# Altium footprint library Speaker Library.PcbLib: 46 footprints (part 1 of 3)
Each footprint in its own frame and in the unit in brackets; x right, y up, seen from the top. Pads: shape width x height; smd on the part's side, far side on the other; paste and mask are expansions set on the pad; w line width, h text height; cw(c..) or ccw(c..) is an arc to the next point about the centre after c.
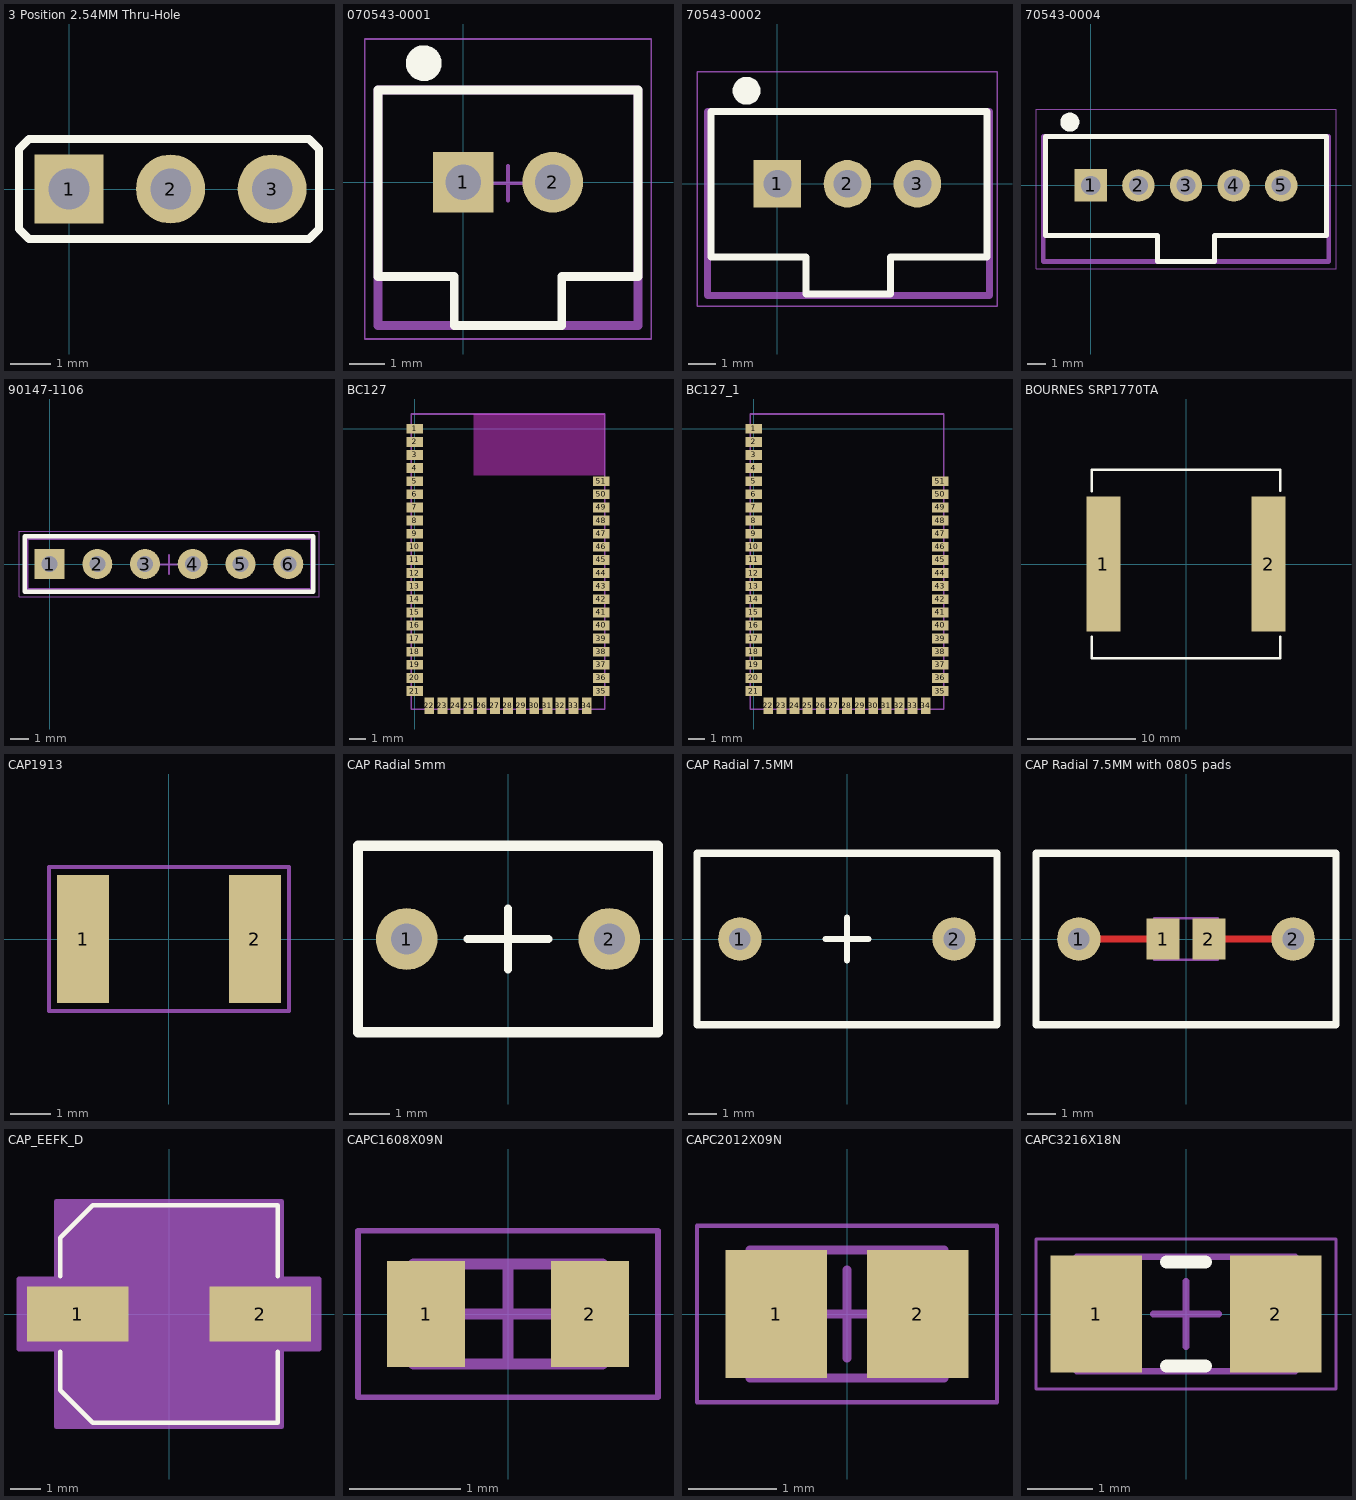
[diagram p0: the footprints below, top view; thin cyan lines are the x and y axes]

## 3 Position 2.54MM Thru-Hole [mil] "Jumper, Through-hole, 2.54mm Pitch"
height 452.76
pads (3):
  rect 67.99x67.99 hole 40: 1(0,0)
  round 67.99 hole 40: 2(100,0) 3(200,0)
Top Overlay:
  lines w7.87: -49.21,-39.37 -49.21,39.37 -39.37,49.21 236.22,49.21 246.06,39.37 246.06,-39.37 236.22,-49.21 -39.37,-49.21 -49.21,-39.37
Mechanical 15:
  lines w3.94: 179.31,0 218.69,0 ; 199,-19.69 199,19.68
3D body "901200763.stp": height 364.17, standoff -112.87, extent -51.57,-49.21 248.43,49.22

## 070543-0001 [mil] "Connector, Through-hole, 2.54mm Pitch"
height 452.76
pads (2):
  rect 67.99x67.99 hole 40: 1(0,0)
  round 67.99 hole 40: 2(100,0)
Top Overlay:
  circle w20: c-44,133 r10
  lines w10: -95,-105 -10,-105 -10,-160 110,-160 110,-105 195,-105 195,103 -95,103 -95,-105
Mechanical 13:
  lines w10: -94.99,-160 -94.99,103 195,103 195,-160 -94.99,-160
Mechanical 15:
  lines w1.97: -110,-175 210,-175 210,160 -110,160 -110,-175
  lines w3.94: 30.32,-1 69.69,-1 ; 50,-20.69 50,18.68
3D body "705430001.stp": height 465, standoff -130, extent -95,-160 195,100

## 70543-0002 [mil] "Connector, Through-hole, 2.54mm Pitch"
height 452.76
pads (3):
  rect 67.99x67.99 hole 40: 1(0,0)
  round 67.99 hole 40: 2(100,0) 3(200,0)
Top Overlay:
  circle w20: c-44,133 r10
  lines w10: 40,-105 -95,-105 -95,103 300,103 300,-105 162,-105 162,-158 ; 41,-105 41,-158 162,-158 ; 42,-158 162,-158
Mechanical 13:
  lines w10: -100,-160 303,-160 303,103 -100,103 -100,-160
Mechanical 15:
  lines w1.97: -115,-175 -115,160 314,160 314,-175 -115,-175
  lines w3.94: 179.31,0 218.69,0 ; 199,-19.69 199,19.68
3D body "705430002.stp": height 465, standoff -130, extent -98,-159 302,101

## 70543-0004 [mil] "Connector, Through-hole, 2.54mm Pitch"
height 452.76
pads (5):
  rect 67.99x67.99 hole 40: 1(0,0)
  round 67.99 hole 40: 2(100,0) 3(200,0) 4(300,0) 5(400,0)
Top Overlay:
  circle w20: c-44,133 r10
  lines w10: 140,-160 260,-160 ; 140,-160 140,-105 -95,-105 -95,103 495,103 495,-105 260,-105 260,-160 ; 140,-160 260,-160
Mechanical 13:
  lines w10: -100,-160 -100,103 500,103 500,-160 -100,-160
Mechanical 15:
  lines w1.97: -115,-175 515,-175 515,160 -115,160 -115,-175
  lines w3.94: 179.31,0 218.69,0 ; 199,-19.69 199,19.68
3D body "705430004.stp": height 465, standoff -130, extent -100,-160 500,100

## 90147-1106 [mil] "Receptacle, 6POS, Through-hole, 2.54mm Pitch"
height 452.76
pads (6):
  rect 63x63 hole 33.46: 1(0,0)
  round 63 hole 33.46: 2(100,0) 3(200,0) 4(300,0) 5(400,0) 6(500,0)
Top Overlay:
  lines w10: 552.17,-58.07 -52.17,-58.07 -52.17,58.07 552.17,58.07 ; 552.56,-58.07 552.56,58.07
Mechanical 13:
  lines w10: -49.21,-55.12 548.23,-55.12 550.59,-52.76 550.59,54.72 550.2,55.12 -49.21,55.12 -49.21,-55.12
Mechanical 15:
  lines w1.97: -63.98,-68.9 564.37,-68.9 564.37,68.9 -63.98,68.9 -63.98,-68.9
  lines w3.94: 230.31,-1 269.69,-1 ; 250,-20.69 250,18.68
3D body "901471106.stp": height 334.65, standoff -114.17, extent -49.99,-49.99 550.01,50.01

## BC127 [mm]
pads (51):
  rect 1x0.6 smd mask+0: 1(0,0) 2(0,-0.8) 3(0,-1.6) 4(0,-2.4) 5(0,-3.2) 6(0,-4) 7(0,-4.8) 8(0,-5.6) 9(0,-6.4) 10(0,-7.2) 11(0,-8) 12(0,-8.8) 13(0,-9.6) 14(0,-10.4) 15(0,-11.2) 16(0,-12) 17(0,-12.8) 18(0,-13.6) 19(0,-14.4) 20(0,-15.2) 21(0,-16) 35(11.4,-16) 36(11.4,-15.2) 37(11.4,-14.4) 38(11.4,-13.6) 39(11.4,-12.8) 40(11.4,-12) 41(11.4,-11.2) 42(11.4,-10.4) 43(11.4,-9.6) 44(11.4,-8.8) 45(11.4,-8) 46(11.4,-7.2) 47(11.4,-6.4) 48(11.4,-5.6) 49(11.4,-4.8) 50(11.4,-4) 51(11.4,-3.2)
  rect 0.6x1 smd mask+0: 22(0.9,-16.9) 23(1.7,-16.9) 24(2.5,-16.9) 25(3.3,-16.9) 26(4.1,-16.9) 27(4.9,-16.9) 28(5.7,-16.9) 29(6.5,-16.9) 30(7.3,-16.9) 31(8.1,-16.9) 32(8.9,-16.9) 33(9.7,-16.9) 34(10.5,-16.9)
Keep-Out Layer:
  rectangle: 3.6,-2.85 11.6,0.9
Mechanical 13:
  lines w0.1: -0.2,-17.1 11.6,-17.1 11.6,0.9 -0.2,0.9 -0.2,-17.1
3D body "Blue Creation BC12x.step": height 2.5, standoff 0, extent -0.2,-17.1 11.6,0.9

## BC127_1 [mm]
pads (51):
  rect 1x0.6 smd mask+0: 1(0,0) 2(0,-0.8) 3(0,-1.6) 4(0,-2.4) 5(0,-3.2) 6(0,-4) 7(0,-4.8) 8(0,-5.6) 9(0,-6.4) 10(0,-7.2) 11(0,-8) 12(0,-8.8) 13(0,-9.6) 14(0,-10.4) 15(0,-11.2) 16(0,-12) 17(0,-12.8) 18(0,-13.6) 19(0,-14.4) 20(0,-15.2) 21(0,-16) 35(11.4,-16) 36(11.4,-15.2) 37(11.4,-14.4) 38(11.4,-13.6) 39(11.4,-12.8) 40(11.4,-12) 41(11.4,-11.2) 42(11.4,-10.4) 43(11.4,-9.6) 44(11.4,-8.8) 45(11.4,-8) 46(11.4,-7.2) 47(11.4,-6.4) 48(11.4,-5.6) 49(11.4,-4.8) 50(11.4,-4) 51(11.4,-3.2)
  rect 0.6x1 smd mask+0: 22(0.9,-16.9) 23(1.7,-16.9) 24(2.5,-16.9) 25(3.3,-16.9) 26(4.1,-16.9) 27(4.9,-16.9) 28(5.7,-16.9) 29(6.5,-16.9) 30(7.3,-16.9) 31(8.1,-16.9) 32(8.9,-16.9) 33(9.7,-16.9) 34(10.5,-16.9)
Mechanical 13:
  lines w0.1: -0.2,-17.1 -0.2,0.9 11.6,0.9 11.6,-17.1 -0.2,-17.1

## BOURNES SRP1770TA [mm] "Nonstandard Inductor"
pads (2):
  rect 3.15x12.5 smd: 1(-7.675,0) 2(7.675,0)
Top Overlay:
  lines w0.2: -8.75,-6.75 -8.75,-8.75 8.75,-8.75 8.75,-6.75 ; -8.75,6.75 -8.75,8.75 8.75,8.75 ; 8.75,6.775 8.75,8.75 ; 8.75,8.75 8.75,8.75
3D body: height 6.7, standoff 0, extent -8.45,-8.45 8.45,8.45

## CAP1913 [mm]
pads (2):
  rect 1.3x3.2 smd: 1(-2.15,0) 2(2.15,0)
Mechanical 15:
  lines w0.1: -3,-1.8 -3,1.8 3,1.8 3,-1.8 -3,-1.8
3D body "CAP_E1.stp": height 1.6, standoff 0, extent -2.502,-1.752 2.502,1.753

## CAP Radial 5mm [mil]
pads (2):
  round 60 hole 30: 1(-98.43,0) 2(98.43,0)
Top Overlay:
  lines w7.87: -39.37,0 39.37,0 ; 0,-29.53 0,29.53
  lines w10: -145.67,-90.55 145.67,-90.55 145.67,90.55 -145.67,90.55 -145.67,-90.55
3D body: height 374.02, standoff 0, extent -143.7,-88.58 143.7,88.58

## CAP Radial 7.5MM [mil]
pads (2):
  round 60 hole 30: 1(-147.64,0) 2(147.64,0)
Top Overlay:
  lines w7.87: -29.53,0 29.53,0 ; 0,-29.53 0,29.53
  lines w10: -206.69,-118.11 -206.69,118.11 206.69,118.11 206.69,-118.11 -206.69,-118.11
3D body: height 472.44, standoff 0, extent -202.75,-118.11 202.76,118.11

## CAP Radial 7.5MM with 0805 pads [mm]
pads (4):
  round 1.524 hole 0.762: 1(-3.75,0) 2(3.75,0)
  rect 1.15x1.45 smd: 1(-0.8,0) 2(0.8,0)
Top Layer:
  lines w0.254: -3.75,0 -0.8,0 ; 0.8,0 3.75,0
Top Overlay:
  lines w0.254: -5.25,-3 5.25,-3 5.25,3 -5.25,3 -5.25,-3
Mechanical 13:
  lines w0.1: -1.1,-0.725 1.1,-0.725 1.1,0.725 -1.1,0.725 -1.1,-0.725
3D body: height 12, standoff 0, extent -5.15,-3 5.15,3
3D body: height 0.9, standoff 0, extent 0.6,-0.725 1.1,0.725
3D body: height 0.9, standoff 0, extent -1.1,-0.725 -0.6,0.725
3D body: height 0.9, standoff 0, extent -0.6,-0.725 0.6,0.725

## CAP_EEFK_D [mil]
pads (2):
  rect 130x70 smd: 1(-116.5,0) 2(116.5,0)
Top Overlay:
  lines w6: -139,-48.1 -139,-97.22 -97.22,-139 139,-139 139,-48.1 ; -139,48.1 -139,97.22 -97.22,139 139,139 139,48.1
Mechanical 15:
  region: -144,-45 -191.5,-45 -191.5,45 -144,45 -144,144 144,144 144,45 191.5,45 191.5,-45 144,-45 144,-144 -144,-144
  lines w6: -191.5,-45 -191.5,45 -144,45 -144,144 144,144 144,45 191.5,45 191.5,-45 144,-45 144,-144 -144,-144 -144,-45 -191.5,-45
3D body "CAP_EEFK_D.stp": height 242, standoff 0, extent -153.5,-134 153.5,134

## CAPC1608X09N [mm] "Chip Capacitor, 2-Leads, Body 1.60x0.80mm, IPC Medium Density"
height 0.8
pads (2):
  rect 0.7x0.95 smd: 1(-0.737,0) 2(0.738,0)
Mechanical 13:
  lines w0.1: -0.85,-0.45 -0.85,0.45 0.85,0.45 0.85,-0.45 -0.85,-0.45
Mechanical 15:
  lines w0.05: -1.35,-0.75 -1.35,0.75 1.35,0.75 1.35,-0.75 -1.35,-0.75
  lines w0.1: -0.45,0 0.45,0 ; 0,-0.45 0,0.45
3D body "CAPC1608X08N.step": height 0.8, standoff 0, extent -0.85,-0.45 0.85,0.45

## CAPC2012X09N [mm] "Chip Capacitor, 2-Leads, Body 2.00x1.25mm, IPC Medium Density"
height 0.9
pads (2):
  rect 1.15x1.45 smd: 1(-0.8,0) 2(0.8,0)
Mechanical 13:
  lines w0.1: -1.1,-0.725 -1.1,0.725 1.1,0.725 1.1,-0.725 -1.1,-0.725
Mechanical 15:
  lines w0.05: -1.7,-1 -1.7,1 1.7,1 1.7,-1 -1.7,-1
  lines w0.1: -0.5,0 0.5,0 ; 0,-0.5 0,0.5
3D body: height 0.9, standoff 0, extent -0.6,-0.725 0.6,0.725
3D body: height 0.9, standoff 0, extent -1.1,-0.725 -0.6,0.725
3D body: height 0.9, standoff 0, extent 0.6,-0.725 1.1,0.725

## CAPC3216X18N [mm] "Chip Capacitor, 2-Leads, Body 3.20x1.60mm, IPC Medium Density"
height 1.8
pads (2):
  rect 1.4x1.8 smd: 1(-1.375,0) 2(1.375,0)
Top Overlay:
  lines w0.2: -0.3,-0.8 0.3,-0.8 ; -0.3,0.8 0.3,0.8
Mechanical 13:
  lines w0.1: -1.675,-0.875 -1.675,0.875 1.675,0.875 1.675,-0.875 -1.675,-0.875
Mechanical 15:
  lines w0.05: -2.3,-1.15 -2.3,1.15 2.3,1.15 2.3,-1.15 -2.3,-1.15
  lines w0.1: -0.5,0 0.5,0 ; 0,-0.5 0,0.5
3D body: height 1.8, standoff 0, extent -1.125,-0.875 1.125,0.875
3D body: height 1.8, standoff 0, extent -1.675,-0.875 -1.125,0.875
3D body: height 1.8, standoff 0, extent 1.125,-0.875 1.675,0.875